# Altium footprint library LED.PcbLib: 29 footprints (part 1 of 2)
Each footprint in its own frame and in the unit in brackets; x right, y up, seen from the top. Pads: shape width x height; smd on the part's side, far side on the other; paste and mask are expansions set on the pad; w line width, h text height; cw(c..) or ccw(c..) is an arc to the next point about the centre after c.
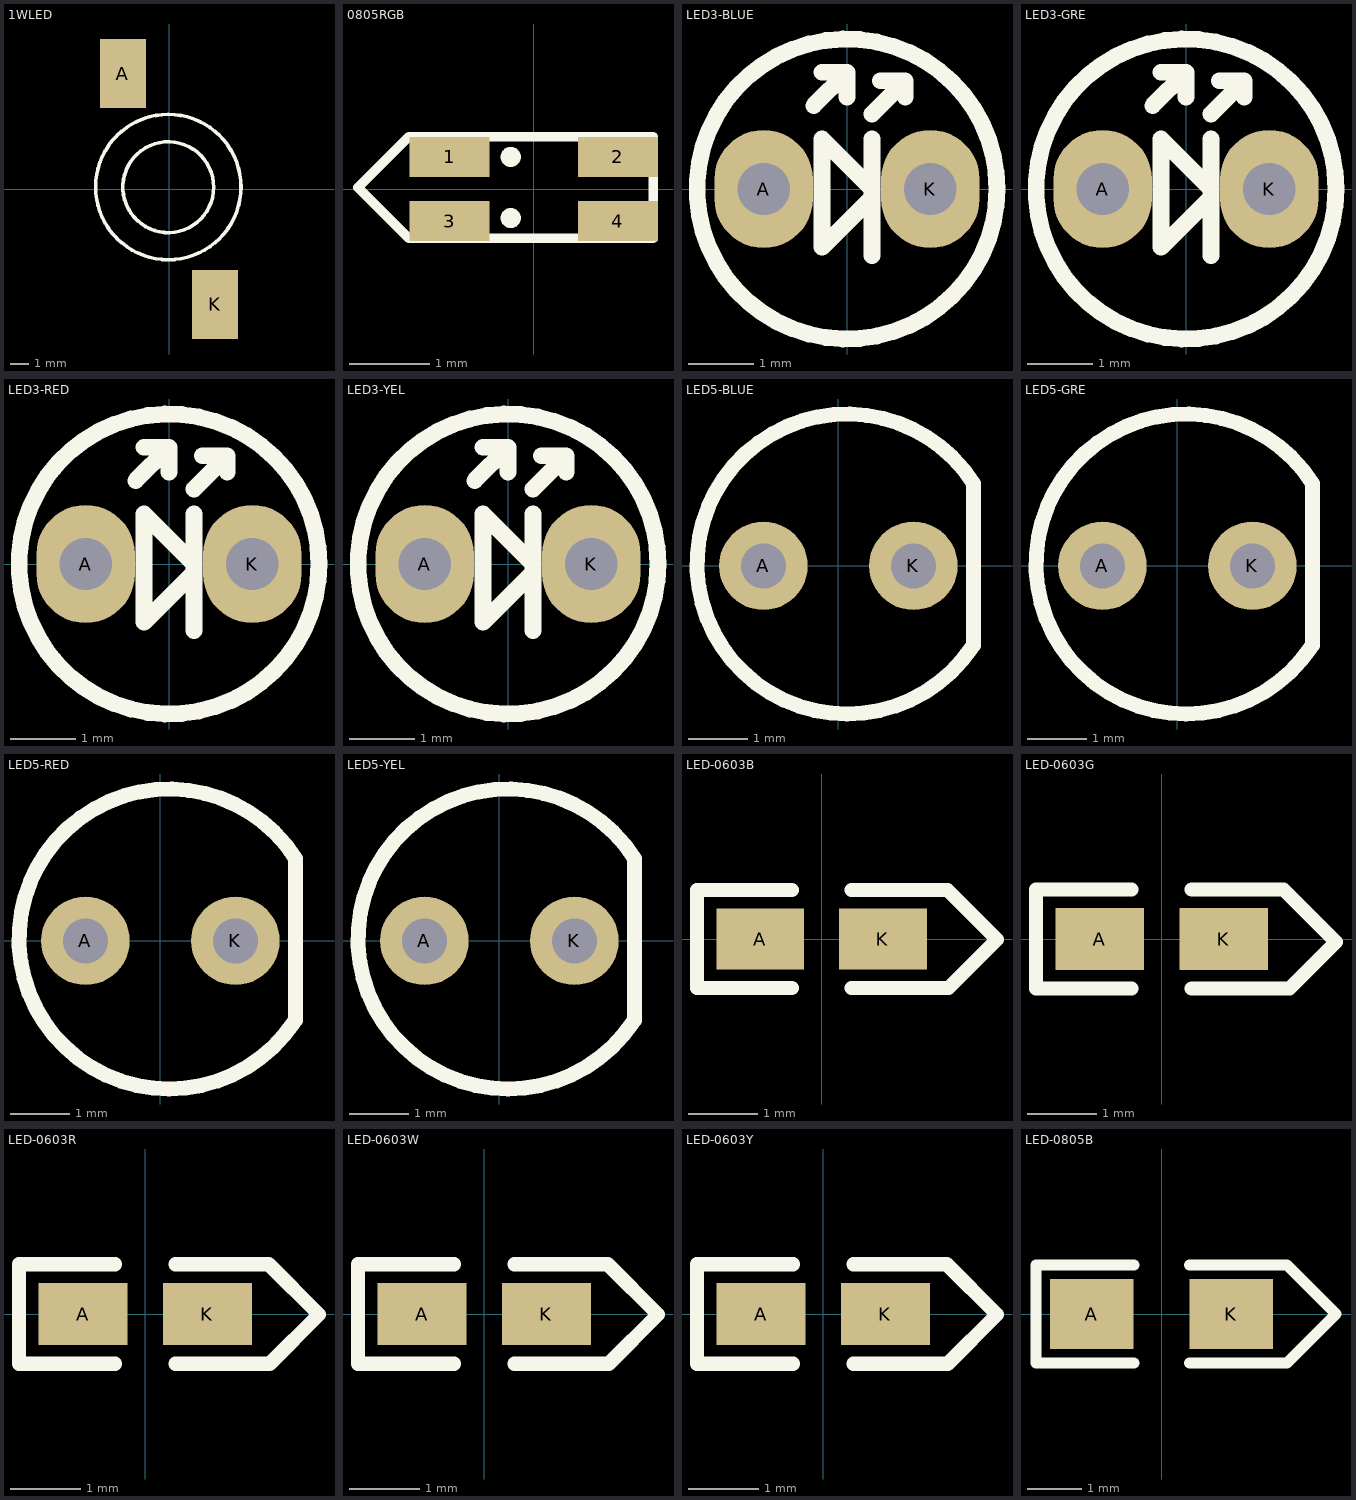
[diagram p0: the footprints below, top view; thin cyan lines are the x and y axes]

## 1WLED [mil]
pads (2):
  rect 100x150 smd: A(-100,250) K(100,-250)
Top Overlay:
  circle w7.87: c-1.57,3.94 r98.43
  circle w7.87: c-1.57,4.25 r157.48
3D body: height 35, standoff 10, extent -139.37,43.31 -60.63,190.94
3D body: height 35, standoff 10, extent 57.48,-183.07 136.22,-64.96
3D body: height 128.11, standoff 10, extent -157.81,-152.92 155.91,161.42
3D body: height 218.43, standoff 21.57, extent -98.97,-93.65 96.85,102.36
3D body: height 19.68, standoff 10, extent 57.48,-311.02 136.22,-183.07
3D body: height 19.68, standoff 10, extent -139.37,190.94 -60.63,309.06

## 0805RGB [mm]
height 10
pads (4):
  rect 1x0.5 smd: 1(-1.05,0.4) 2(1.05,0.4) 3(-1.05,-0.4) 4(1.05,-0.4)
Top Overlay:
  circle w0.254: c-0.288,-0.362 r0
  circle w0.254: c-0.288,0.4 r0
  lines w0.12: -2.193,0.019 -1.558,-0.616 -1.05,-0.616 0.982,-0.616 1.49,-0.616 1.49,0.654 0.982,0.654 -1.05,0.654 -1.558,0.654 -2.193,0.019

## LED3-BLUE [mm]
pads (2):
  oval 1.5x1.8 hole 0.8: A(-1.27,0) K(1.27,0)
Top Overlay:
  circle w0.254: c0,0 r2.286
  lines w0.254: -0.508,1.27 0,1.778 ; -0.381,1.778 0,1.778 ; 0,1.397 0,1.778 ; 0.381,-1.016 0.381,0.762 ; 0.381,1.143 0.889,1.651 ; 0.508,1.651 0.889,1.651 ; 0.889,1.397 0.889,1.651 ; -0.381,-0.889 -0.381,0.762 0.381,0 0.381,-0.127 -0.381,-0.889
3D body "LED3_BLUE.STEP": height 5.2, standoff -2, extent -2,-1.998 1.52,1.998

## LED3-GRE [mm]
pads (2):
  oval 1.5x1.8 hole 0.8: A(-1.27,0) K(1.27,0)
Top Overlay:
  circle w0.254: c0,0 r2.286
  lines w0.254: -0.508,1.27 0,1.778 ; -0.381,1.778 0,1.778 ; 0,1.397 0,1.778 ; 0.381,-1.016 0.381,0.762 ; 0.381,1.143 0.889,1.651 ; 0.508,1.651 0.889,1.651 ; 0.889,1.397 0.889,1.651 ; -0.381,-0.889 0.381,-0.127 0.381,0 -0.381,0.762 -0.381,-0.889
3D body "LED3_GRE.STEP": height 5.2, standoff -2, extent -2.01,-2.003 1.51,1.993

## LED3-RED [mm]
pads (2):
  oval 1.5x1.8 hole 0.8: A(-1.27,0) K(1.27,0)
Top Overlay:
  circle w0.254: c0,0 r2.286
  lines w0.254: -0.508,1.27 0,1.778 ; -0.381,1.778 0,1.778 ; 0,1.397 0,1.778 ; 0.381,-1.016 0.381,0.762 ; 0.381,1.143 0.889,1.651 ; 0.508,1.651 0.889,1.651 ; 0.889,1.397 0.889,1.651 ; -0.381,-0.889 -0.381,0.762 0.381,0 0.381,-0.127 -0.381,-0.889
3D body "LED3_RED.STEP": height 5.2, standoff -2, extent -2.01,-2.003 1.51,1.993

## LED3-YEL [mm]
pads (2):
  oval 1.5x1.8 hole 0.8: A(-1.27,0) K(1.27,0)
Top Overlay:
  circle w0.254: c0,0 r2.286
  lines w0.254: -0.508,1.27 0,1.778 ; -0.381,1.778 0,1.778 ; 0,1.397 0,1.778 ; 0.381,-1.016 0.381,0.762 ; 0.381,1.143 0.889,1.651 ; 0.508,1.651 0.889,1.651 ; 0.889,1.397 0.889,1.651 ; -0.381,-0.889 0.381,-0.127 0.381,0 -0.381,0.762 -0.381,-0.889
3D body "LED3_YEL.STEP": height 5.2, standoff -2, extent -1.643,-1.91 1.877,2.086

## LED5-BLUE [mm]
pads (2):
  round 1.5 hole 0.762: A(-1.27,0) K(1.27,0)
Top Overlay:
  lines w0.254: 2.258,-1.378 cw(c0.145,0.031) 2.286,1.397 2.286,-1.35
3D body "LED5_BLUE.STEP": height 8.6, standoff -2, extent -2.85,-2.85 2.5,2.85

## LED5-GRE [mm]
pads (2):
  round 1.5 hole 0.762: A(-1.27,0) K(1.27,0)
Top Overlay:
  lines w0.254: 2.258,-1.378 cw(c0.145,0.031) 2.286,1.397 2.286,-1.35
3D body "LED5_GRE.STEP": height 8.6, standoff -2, extent -2.85,-2.85 2.5,2.85

## LED5-RED [mm]
pads (2):
  round 1.5 hole 0.762: A(-1.27,0) K(1.27,0)
Top Overlay:
  lines w0.254: 2.258,-1.378 cw(c0.145,0.031) 2.286,1.397 2.286,-1.35
3D body "LED5_RED.STEP": height 8.6, standoff -2, extent -2.85,-2.85 2.5,2.85

## LED5-YEL [mm]
pads (2):
  round 1.5 hole 0.762: A(-1.27,0) K(1.27,0)
Top Overlay:
  lines w0.254: 2.258,-1.378 cw(c0.145,0.031) 2.286,1.397 2.286,-1.35
3D body "LED5_YEL.STEP": height 8.6, standoff -2, extent -2.85,-2.85 2.5,2.85

## LED-0603B [mil]
pads (2):
  rect 50x35 smd: A(-35,0) K(35,0)
Top Overlay:
  lines w8: -17,-28 -71,-28 -71,-26 -71,28 -70,28 -17,28 ; 17,-28 72.25,-28 100,-0.26 71.74,28 71,28 17,28
3D body "18.STEP": height 23.82, standoff -0.04, extent -31.5,-15.26 31.49,16.32

## LED-0603G [mil]
pads (2):
  rect 50x35 smd: A(-35,0) K(35,0)
Top Overlay:
  lines w8: -17,-28 -71,-28 -71,-26 -71,28 -70,28 -17,28 ; 17,-28 72.25,-28 98.5,-1.75 68.75,28 17,28
3D body "17.STEP": height 23.82, standoff -0.04, extent -31.5,-15.26 31.49,16.32

## LED-0603R [mil]
pads (2):
  rect 50x35 smd: A(-35,0) K(35,0)
Top Overlay:
  lines w8: -17,-28 -71,-28 -71,-26 -71,28 -70,28 -17,28 ; 17,-28 70,-28 97.74,-0.26 69.49,28 68.75,28 17,28
3D body "16.STEP": height 23.82, standoff -0.04, extent -33,-16.05 30,15.53

## LED-0603W [mil]
pads (2):
  rect 50x35 smd: A(-35,0) K(35,0)
Top Overlay:
  lines w8: -17,-28 -71,-28 -71,-26 -71,28 -70,28 -17,28 ; 17,-28 70,-28 97.74,-0.26 69.49,28 ; 17,28 69.49,28 ; 68.75,28 69.49,28
3D body "15.STEP": height 23.82, standoff -0.04, extent -31.5,-15.26 31.49,16.32

## LED-0603Y [mil]
pads (2):
  rect 50x35 smd: A(-35,0) K(35,0)
Top Overlay:
  lines w8: -17,-28 -71,-28 -71,-26 -71,28 -70,28 -17,28 ; 17,-28 70,-28 97.74,-0.26 69.49,28 ; 17,28 69.49,28 ; 68.75,28 69.49,28
3D body "14.STEP": height 23.82, standoff -0.04, extent -31.5,-16.83 31.49,15

## LED-0805B [mil]
pads (2):
  rect 60x50 smd: A(-50,0) K(50,0)
Top Overlay:
  lines w8: -20,-35 -90,-35 -90,35 -20,35 ; 20,-35 90,-35 125,0 90,35 20,35
3D body "13.STEP": height 31.69, standoff -0.04, extent -40,-24.64 38.74,24.64